# Altium schematic symbol library ECS-480-7-33B2-CKM-TR3.SchLib: 1 symbol
Pins are listed as number, name and electrical type; pins without a type are passive.

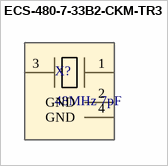
[diagram p0: symbol ECS-480-7-33B2-CKM-TR3]

## ECS-480-7-33B2-CKM-TR3
designator X?, comment 48MHz 7pF
footprint ECS-480-7-33B2-CKM-TR3
pins: 1, 2 GND, 3, 4 GND